# Altium footprint library diod_triod.PcbLib: 51 footprints (part 1 of 4)
Each footprint in its own frame and in the unit in brackets; x right, y up, seen from the top. Pads: shape width x height; smd on the part's side, far side on the other; paste and mask are expansions set on the pad; w line width, h text height; cw(c..) or ccw(c..) is an arc to the next point about the centre after c.
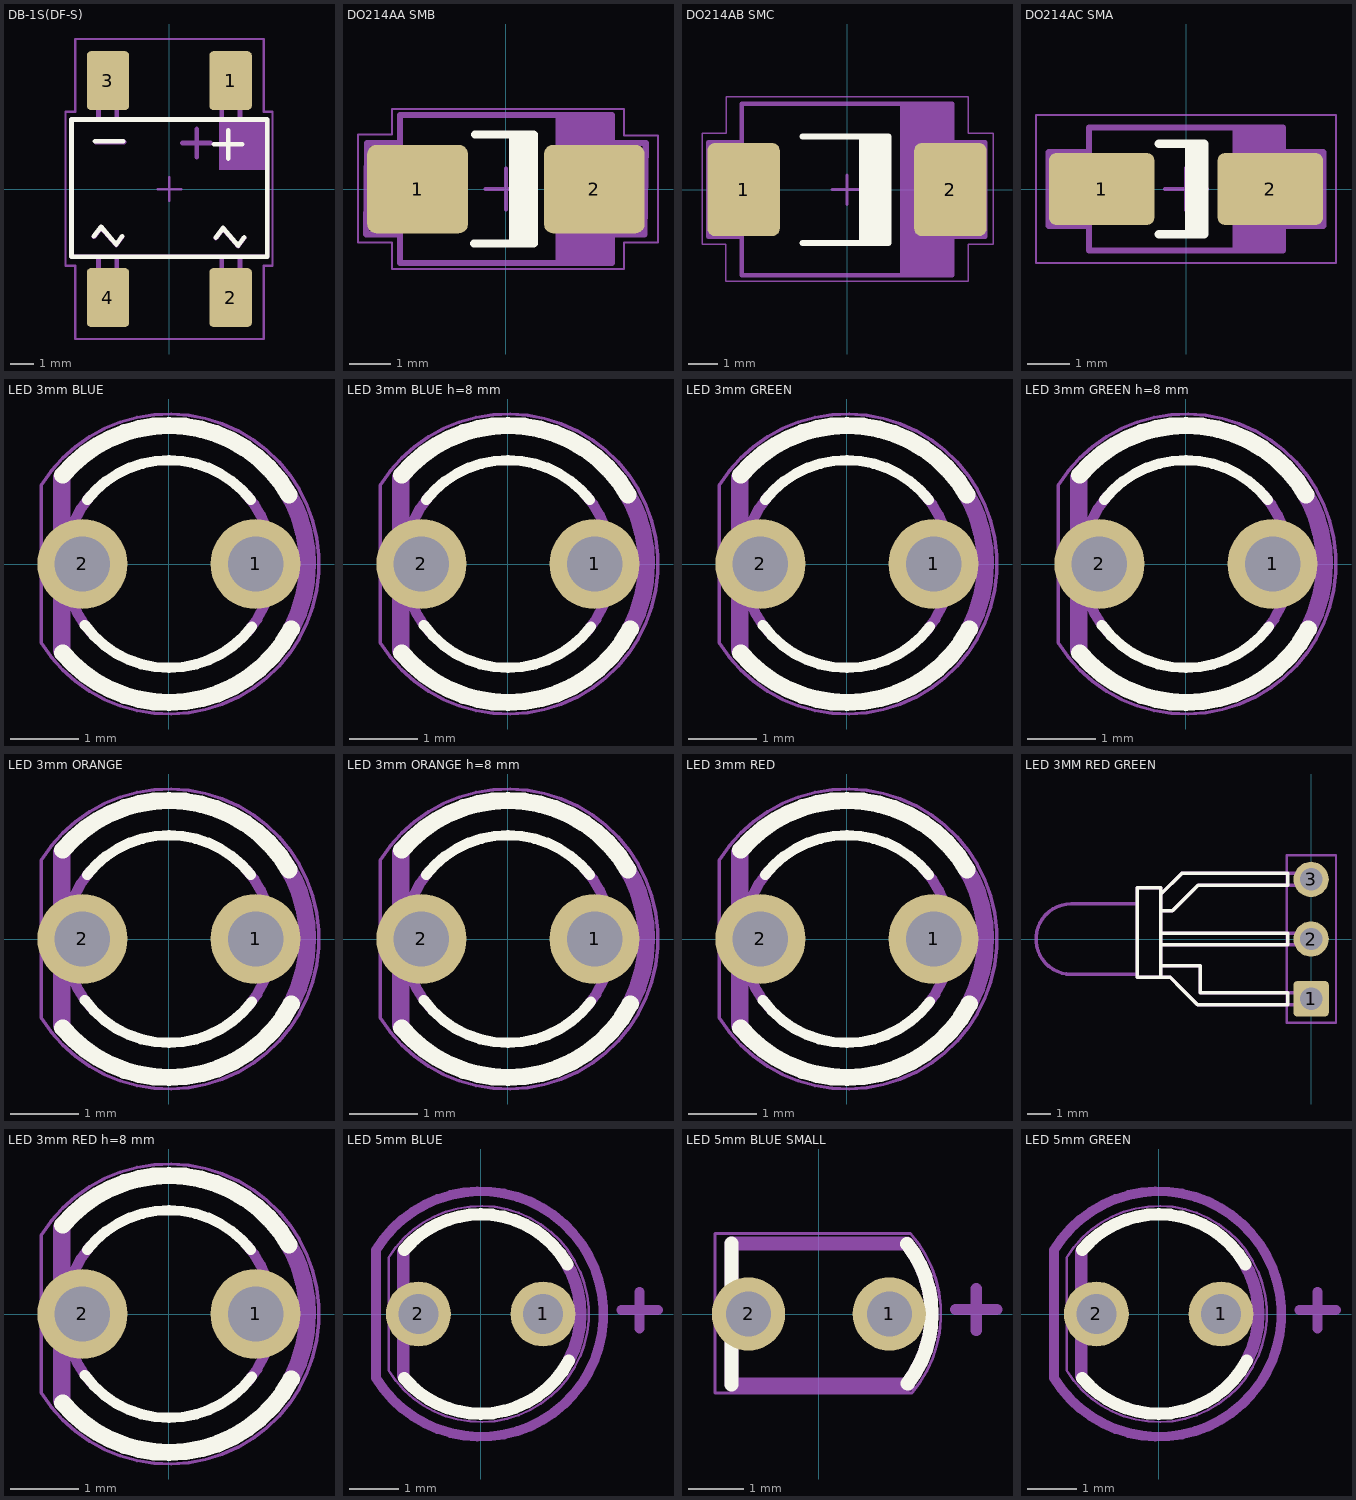
[diagram p0: the footprints below, top view; thin cyan lines are the x and y axes]

## DB-1S(DF-S) [mm]
height 1.1
pads (4):
  rrect20% 1.8x2.5 smd: 1(2.6,4.6) 2(2.6,-4.6) 3(-2.6,4.6) 4(-2.6,-4.6)
Top Overlay:
  lines w0.2: -3.2,-2 -2.9,-1.6 -2.25,-2.35 -2,-2 ; -3.15,2.025 -1.95,2.025 ; 1.9,1.9 3.1,1.9 ; 1.975,-2.05 2.275,-1.65 2.925,-2.4 3.175,-2.05 ; 2.5,1.3 2.5,2.5 ; -4.15,-2.875 4.15,-2.875 4.15,2.95 -4.15,2.95 -4.15,-2.875
Top Designator:
  text ".Designator" at -2.999,6.6 h0.6
Top Assembly:
  rectangle: 2.1,0.8 4.15,2.95
  lines w0.2: -3.2,-2.025 -2.9,-1.625 -2.25,-2.375 -2,-2.025 ; -3.125,2 -1.925,2 ; -3,-2.975 -3,-5.1 -2.225,-5.1 -2.225,-2.975 ; -3,2.975 -3,5.1 -2.225,5.1 -2.225,2.975 ; 0.564,1.952 1.764,1.952 ; 1.164,1.352 1.164,2.552 ; 1.975,-2.075 2.275,-1.675 2.925,-2.425 3.175,-2.075 ; 2.225,-2.975 2.225,-5.1 3,-5.1 3,-2.975 ; 2.225,2.975 2.225,5.1 3,5.1 3,2.975 ; -4.15,-2.875 -4.15,2.95 4.15,2.95 4.15,-2.875 -4.15,-2.875
Top Courtyard:
  lines w0.1: -0.5,0 0.5,0 ; 0,-0.5 0,0.5 ; -4.4,-3.25 -4.4,3.275 -3.996,3.275 -3.996,6.365 4.006,6.365 4.006,3.275 4.375,3.275 4.375,-3.25 4.001,-3.25 4.001,-6.359 -3.99,-6.359 -3.99,-3.25 -4.4,-3.25
3D body "DFS.stp": height 3.43, standoff 0, extent -4.255,-5.175 4.255,5.125

## DO214AA SMB [mm] "Molded Diode, 2-Leads, Body 4.31x3.62mm, IPC Medium Density"
height 2.44
pads (2):
  rrect20% 2.45x2.15 smd: 1(-2.15,0) 2(2.15,0)
Top Overlay:
  region: 0.625,-1.325 0.625,1.3 0.175,1.3 0.175,-1.325
  lines w0.2: -0.775,-1.325 0.175,-1.325 ; -0.75,1.325 0.175,1.325 ; 0.175,-1.325 0.175,1.325 ; 0.175,-1.325 0.675,-1.325 0.675,1.325 0.175,1.325
Top Designator:
  text ".Designator" at -2.849,2.275 h0.6
Top Assembly:
  rectangle: 1.2,-1.8 2.575,1.8
  lines w0.15: -2.575,-1.1 -3.4,-1.1 -3.375,1.125 -2.575,1.125 ; 2.575,-1.1 3.375,-1.1 3.4,1.125 2.575,1.125 ; -2.575,-1.8 2.575,-1.8 2.575,1.8 -2.575,1.8 -2.575,-1.8
Top Courtyard:
  lines w0.05: 2.875,1.95 2.875,1.787 2.875,1.462 2.875,1.3 3.7,1.3 3.7,-1.3 2.875,-1.3 2.875,-1.462 2.875,-1.787 2.875,-1.95 -2.775,-1.95 -2.775,-1.787 -2.775,-1.462 -2.775,-1.3 -3.6,-1.3 -3.6,1.325 -2.775,1.325 -2.775,1.488 -2.775,1.813 -2.775,1.954 2.875,1.954
  lines w0.1: -0.5,0 0.5,0 ; 0,-0.5 0,0.5
3D body "SMB.STEP": height 2.4, standoff 0, extent -2.6,-1.8 2.6,1.8

## DO214AB SMC [mm] "Molded Diode, 2-Leads, Body 6.85x5.90mm, IPC Medium Density"
height 2.62
pads (2):
  rrect20% 2.45x3.15 smd: 1(-3.5,0) 2(3.5,0)
Top Overlay:
  rectangle: 0.5,-1.8 1.4,1.8
  lines w0.2: -1.5,-1.8 0.5,-1.8 ; -1.5,1.8 0.5,1.8 ; 0.5,-1.8 1.4,-1.8 1.4,1.8 0.5,1.8 ; 0.5,-1.8 0.5,1.8
Top Designator:
  text ".Designator" at -2.999,3.4 h0.6
Top Assembly:
  rectangle: 1.8,-2.9 3.555,2.9
  lines w0.15: -3.6,-1.6 -4.7,-1.6 -4.7,1.6 -3.6,1.6 ; 3.6,-1.6 4.675,-1.6 4.675,1.6 3.6,1.6 ; -3.555,-2.9 3.555,-2.9 3.555,2.9 -3.555,2.9 -3.555,-2.9
Top Courtyard:
  lines w0.05: -4.9,-1.85 -4.9,1.9 ; -4.096,-3.1 4.1,-3.1 ; -4.083,3.14 4.099,3.14 ; 4.95,-1.85 4.95,1.9
  lines w0.051: -4.9,-1.85 -4.102,-1.85 -4.096,-3.1 ; -4.9,1.9 -4.088,1.9 -4.083,3.14 ; 4.1,-3.1 4.105,-1.85 4.95,-1.85 ; 4.099,3.14 4.105,1.9 4.95,1.9
  lines w0.1: -0.5,0 0.5,0 ; 0,-0.5 0,0.5
3D body "SMC.STEP": height 2.6, standoff 0, extent -3.97,-2.952 3.97,2.952

## DO214AC SMA [mm] "Molded Diode, 2-Leads, Body 4.30x2.60mm, IPC Medium Density"
height 2.4
pads (2):
  rrect20% 2.5x1.7 smd: 1(-2,0) 2(2,0)
Top Overlay:
  region: 0.437,-1.075 0.437,1.075 0.062,1.075 0.062,-1.075
  lines w0.2: -0.65,-1.075 0.075,-1.075 ; -0.65,1.075 0.075,1.075 ; 0.075,-1.075 0.437,-1.075 0.437,1.075 0.075,1.075 ; 0.075,-1.075 0.075,1.075
Top Designator:
  text ".Designator" at -2.999,2.3 h0.6
Top Assembly:
  rectangle: 1.1,-1.46 2.3,1.5
  lines w0.15: -2.3,-0.875 -3.25,-0.875 -3.25,0.875 -2.3,0.875 ; 2.3,-0.875 3.25,-0.875 3.25,0.875 2.3,0.875 ; -2.3,-1.46 -2.3,1.46 2.3,1.46 2.3,-1.46 -2.3,-1.46
Top Courtyard:
  lines w0.05: -3.556,-1.75 3.556,-1.75 3.556,1.75 -3.556,1.75 -3.556,-1.75
  lines w0.1: -0.5,0 0.5,0 ; 0,-0.5 0,0.5
3D body "SMA.STEP": height 2.4, standoff 0, extent -2.6,-1.375 2.6,1.375

## LED 3mm BLUE [mil]
height 421.26
pads (2):
  round 52 hole 32: 1(50,0) 2(-50,0)
Top Overlay:
  lines w6: -48.54,-35.27 ccw(c0,0) 0,-60 ccw(c0,0) 47.92,-36.11 ; -47.28,36.94 cw(c0,0) 0,60 cw(c0,0) 47.28,36.94
  lines w10: -61.28,-51.42 ccw(c0,0) 0,-80 ccw(c0,0) 70.63,-37.56 ; -61.29,51.42 cw(c0,0) 0,80 cw(c0,0) 69.28,40
Top Assembly:
  lines w6: -45.96,38.57 ccw(c0,0) -60,0 ccw(c0,0) -45.28,-39.36 ; 44.59,40.15 cw(c0,0) 60,0 cw(c0,0) 45.96,-38.57
  lines w10: -62,-50 -62,50 ; 67.84,42.4 cw(c0,0) 80,0 cw(c0,0) 70.64,-37.56
Top Courtyard:
  lines w1.97: -73.83,-45.26 ccw(c0.02,0) -73.83,45.26 ; -73.82,-45.28 -73.82,45.28
3D body "LED 3mm BLEU.STEP": height 688.98, standoff -511.81, extent -63,-62.99 63,62.99

## LED 3mm BLUE h=8 mm [mil]
height 421.26
pads (2):
  round 52 hole 32: 1(50,0) 2(-50,0)
Top Overlay:
  lines w6: -48.54,-35.27 ccw(c0,0) 0,-60 ccw(c0,0) 47.92,-36.11 ; -47.28,36.94 cw(c0,0) 0,60 cw(c0,0) 47.28,36.94
  lines w10: -61.28,-51.42 ccw(c0,0) 0,-80 ccw(c0,0) 70.63,-37.56 ; -61.29,51.42 cw(c0,0) 0,80 cw(c0,0) 69.28,40
Top Assembly:
  lines w6: -45.96,38.57 ccw(c0,0) -60,0 ccw(c0,0) -45.28,-39.36 ; 44.59,40.15 cw(c0,0) 60,0 cw(c0,0) 45.96,-38.57
  lines w10: -62,-50 -62,50 ; 67.84,42.4 cw(c0,0) 80,0 cw(c0,0) 70.64,-37.56
Top Courtyard:
  lines w1.97: -73.83,-45.26 ccw(c0.02,0) -73.83,45.26 ; -73.82,-45.28 -73.82,45.28
3D body "LED 3mm BLEU.STEP": height 433.07, standoff -767.72, extent -63,-62.99 63,62.99

## LED 3mm GREEN [mil]
height 421.26
pads (2):
  round 52 hole 32: 1(50,0) 2(-50,0)
Top Overlay:
  lines w6: -48.54,-35.27 ccw(c0,0) 0,-60 ccw(c0,0) 47.92,-36.11 ; -47.28,36.94 cw(c0,0) 0,60 cw(c0,0) 47.28,36.94
  lines w10: -61.28,-51.42 ccw(c0,0) 0,-80 ccw(c0,0) 70.63,-37.56 ; -61.29,51.42 cw(c0,0) 0,80 cw(c0,0) 69.28,40
Top Assembly:
  lines w6: -45.96,38.57 ccw(c0,0) -60,0 ccw(c0,0) -45.28,-39.36 ; 44.59,40.15 cw(c0,0) 60,0 cw(c0,0) 45.96,-38.57
  lines w10: -62,-50 -62,50 ; 67.84,42.4 cw(c0,0) 80,0 cw(c0,0) 70.64,-37.56
Top Courtyard:
  lines w1.97: -73.83,-45.26 ccw(c0.02,0) -73.83,45.26 ; -73.82,-45.28 -73.82,45.28
3D body "LED 3mm GREEN.STEP": height 688.98, standoff -511.81, extent -63,-62.99 63,62.99

## LED 3mm GREEN h=8 mm [mil]
height 421.26
pads (2):
  round 52 hole 32: 1(50,0) 2(-50,0)
Top Overlay:
  lines w6: -48.54,-35.27 ccw(c0,0) 0,-60 ccw(c0,0) 47.92,-36.11 ; -47.28,36.94 cw(c0,0) 0,60 cw(c0,0) 47.28,36.94
  lines w10: -61.28,-51.42 ccw(c0,0) 0,-80 ccw(c0,0) 70.63,-37.56 ; -61.29,51.42 cw(c0,0) 0,80 cw(c0,0) 69.28,40
Top Assembly:
  lines w6: -45.96,38.57 ccw(c0,0) -60,0 ccw(c0,0) -45.28,-39.36 ; 44.59,40.15 cw(c0,0) 60,0 cw(c0,0) 45.96,-38.57
  lines w10: -62,-50 -62,50 ; 67.84,42.4 cw(c0,0) 80,0 cw(c0,0) 70.64,-37.56
Top Courtyard:
  lines w1.97: -73.83,-45.26 ccw(c0.02,0) -73.83,45.26 ; -73.82,-45.28 -73.82,45.28
3D body "LED 3mm GREEN.STEP": height 433.07, standoff -767.72, extent -63,-62.99 63,62.99

## LED 3mm ORANGE [mil]
height 421.26
pads (2):
  round 52 hole 32: 1(50,0) 2(-50,0)
Top Overlay:
  lines w6: -48.54,-35.27 ccw(c0,0) 0,-60 ccw(c0,0) 47.92,-36.11 ; -47.28,36.94 cw(c0,0) 0,60 cw(c0,0) 47.28,36.94
  lines w10: -61.28,-51.42 ccw(c0,0) 0,-80 ccw(c0,0) 70.63,-37.56 ; -61.29,51.42 cw(c0,0) 0,80 cw(c0,0) 69.28,40
Top Assembly:
  lines w6: -45.96,38.57 ccw(c0,0) -60,0 ccw(c0,0) -45.28,-39.36 ; 44.59,40.15 cw(c0,0) 60,0 cw(c0,0) 45.96,-38.57
  lines w10: -62,-50 -62,50 ; 67.84,42.4 cw(c0,0) 80,0 cw(c0,0) 70.64,-37.56
Top Courtyard:
  lines w1.97: -73.83,-45.26 ccw(c0.02,0) -73.83,45.26 ; -73.82,-45.28 -73.82,45.28
3D body "LED 3mm ORANGE.STEP": height 688.98, standoff -511.81, extent -63,-62.99 63,62.99

## LED 3mm ORANGE h=8 mm [mil]
height 421.26
pads (2):
  round 52 hole 32: 1(50,0) 2(-50,0)
Top Overlay:
  lines w6: -48.54,-35.27 ccw(c0,0) 0,-60 ccw(c0,0) 47.92,-36.11 ; -47.28,36.94 cw(c0,0) 0,60 cw(c0,0) 47.28,36.94
  lines w10: -61.28,-51.42 ccw(c0,0) 0,-80 ccw(c0,0) 70.63,-37.56 ; -61.29,51.42 cw(c0,0) 0,80 cw(c0,0) 69.28,40
Top Assembly:
  lines w6: -45.96,38.57 ccw(c0,0) -60,0 ccw(c0,0) -45.28,-39.36 ; 44.59,40.15 cw(c0,0) 60,0 cw(c0,0) 45.96,-38.57
  lines w10: -62,-50 -62,50 ; 67.84,42.4 cw(c0,0) 80,0 cw(c0,0) 70.64,-37.56
Top Courtyard:
  lines w1.97: -73.83,-45.26 ccw(c0.02,0) -73.83,45.26 ; -73.82,-45.28 -73.82,45.28
3D body "LED 3mm ORANGE.STEP": height 433.07, standoff -767.72, extent -63,-62.99 63,62.99

## LED 3mm RED [mil]
height 421.26
pads (2):
  round 52 hole 32: 1(50,0) 2(-50,0)
Top Overlay:
  lines w6: -48.54,-35.27 ccw(c0,0) 0,-60 ccw(c0,0) 47.92,-36.11 ; -47.28,36.94 cw(c0,0) 0,60 cw(c0,0) 47.28,36.94
  lines w10: -61.28,-51.42 ccw(c0,0) 0,-80 ccw(c0,0) 70.63,-37.56 ; -61.29,51.42 cw(c0,0) 0,80 cw(c0,0) 69.28,40
Top Assembly:
  lines w6: -45.96,38.57 ccw(c0,0) -60,0 ccw(c0,0) -45.28,-39.36 ; 44.59,40.15 cw(c0,0) 60,0 cw(c0,0) 45.96,-38.57
  lines w10: -62,-50 -62,50 ; 67.84,42.4 cw(c0,0) 80,0 cw(c0,0) 70.64,-37.56
Top Courtyard:
  lines w1.97: -73.83,-45.26 ccw(c0.02,0) -73.83,45.26 ; -73.82,-45.28 -73.82,45.28
3D body "LED 3mm RED.STEP": height 688.98, standoff -511.81, extent -63,-62.99 63,62.99

## LED 3MM RED GREEN [mm] "3mm Red / Green Common Cathode LED"
pads (3):
  rrect20% 1.5x1.5 hole 0.95: 1(0,-2.54)
  round 1.5 hole 0.95: 2(0,0) 3(0,2.54)
Top Overlay:
  lines w0.15: -6.424,-1.629 -5.991,-1.629 -5.498,-2.122 -5.053,-2.567 -4.83,-2.79 -1,-2.79 -1,-2.54 -1,-2.29 -4.708,-2.29 -4.708,-1.126 -6.4,-1.126 ; -6.4,-0.25 -1,-0.25 -1,0 -1,0.25 -6.4,0.25 ; -6.4,1.204 -5.896,1.204 -5.08,2.02 ; -6.399,1.9 -5.509,2.79 -1,2.79 -1,2.54 -1,2.29 -4.81,2.29 ; -4.788,2.29 -4.81,2.29 ; -5.08,2.02 -5.08,2.02 ; -5.08,2.02 -5.365,1.735 -4.81,2.29 ; -7.399,-1.619 -6.399,-1.619 -6.399,2.181 -7.399,2.181 -7.399,-1.619
Top Designator:
  text ".Designator" at -3.399,4 h0.6
Top Assembly:
  lines w0.15: -7.4,-1.5 -10.2,-1.5 cw(c-10.2,0) -10.2,1.5 -7.4,1.5 ; -7.398,-1.219 -7.398,1.781 ; -6.424,-1.629 -5.991,-1.629 -5.72,-1.9 ; -6.4,-1.204 -6.328,-1.131 -4.708,-1.131 -4.708,-2.29 0,-2.29 0,-2.54 0,-2.79 -4.83,-2.79 -5.08,-2.54 -5.72,-1.9 ; -6.4,-0.25 0,-0.25 0,0 0,0.25 -6.4,0.25 ; -6.4,1.204 -5.896,1.204 -5,2.1 ; -6.399,1.9 -5.509,2.79 0,2.79 0,2.54 0,2.29 -4.81,2.29 ; -6.398,-1.619 -6.397,-1.619 ; -5.72,-1.9 -5.72,-1.9 ; -7.399,-1.619 -6.399,-1.619 -6.399,2.181 -7.399,2.181 -7.399,-1.619
Top Courtyard:
  lines w0.1: -0.5,0 0.5,0 ; 0,-0.5 0,0.5 ; -1.04,-3.555 -1.04,3.56 1.057,3.56 1.057,-3.555 -1.04,-3.555
3D body "WP115WGYW.stp": height 5.5, standoff 0.25, extent -11.76,-2.778 0.24,2.802

## LED 3mm RED h=8 mm [mil]
height 421.26
pads (2):
  round 52 hole 32: 1(50,0) 2(-50,0)
Top Overlay:
  lines w6: -48.54,-35.27 ccw(c0,0) 0,-60 ccw(c0,0) 47.92,-36.11 ; -47.28,36.94 cw(c0,0) 0,60 cw(c0,0) 47.28,36.94
  lines w10: -61.28,-51.42 ccw(c0,0) 0,-80 ccw(c0,0) 70.63,-37.56 ; -61.29,51.42 cw(c0,0) 0,80 cw(c0,0) 69.28,40
Top Assembly:
  lines w6: -45.96,38.57 ccw(c0,0) -60,0 ccw(c0,0) -45.28,-39.36 ; 44.59,40.15 cw(c0,0) 60,0 cw(c0,0) 45.96,-38.57
  lines w10: -62,-50 -62,50 ; 67.84,42.4 cw(c0,0) 80,0 cw(c0,0) 70.64,-37.56
Top Courtyard:
  lines w1.97: -73.83,-45.26 ccw(c0.02,0) -73.83,45.26 ; -73.82,-45.28 -73.82,45.28
3D body "LED 3mm RED.STEP": height 433.07, standoff -767.72, extent -50.21,-87.6 75.79,38.38

## LED 5mm BLUE [mil]
height 421.26
pads (2):
  round 52 hole 32: 1(50,0) 2(-50,0)
Top Overlay:
  lines w10: -61.28,-51.42 ccw(c0,0) 0,-80 ccw(c0,0) 70.63,-37.56 ; -61.29,51.42 cw(c0,0) 0,80 cw(c0,0) 69.28,40
Bottom Dimensions:
  lines w7.87: 112.65,3.14 142.18,3.14 ; 127.42,-11.62 127.42,17.91 ; -83.92,-51.43 ccw(c0,0) -83.92,51.43 -83.92,-51.43
  text ".Designator" at -72.83,115.16 h39.37
Top Assembly:
  lines w10: -62,-50 -62,50 ; 67.84,42.4 cw(c0,0) 80,0 cw(c0,0) 70.64,-37.56
Top Courtyard:
  lines w1.97: -73.83,-45.26 ccw(c0.02,0) -73.83,45.26 ; -73.82,-45.28 -73.82,45.28
3D body "LED_Round_Blue_D5.0mm.step": height 417.32, standoff -157.48, extent -98.42,-116.13 116.15,116.15

## LED 5mm BLUE SMALL [mil]
height 421.26
pads (2):
  round 52 hole 32: 1(50,0) 2(-50,0)
Top Overlay:
  lines w10: -62,-50 -62,50 ; 62.66,49.73 cw(c0,0) 80,0 cw(c0,0) 63.04,-49.25
Bottom Dimensions:
  lines w7.87: 96.9,3.14 126.43,3.14 ; 111.67,-11.62 111.67,17.91
  text ".Designator" at -71.85,70.87 h39.37
Top Assembly:
  lines w10: 62.66,49.73 cw(c0,0) 80,0 cw(c0,0) 63.04,-49.25 ; 62.66,50 -62,50 -62,-50 63.04,-50
Top Courtyard:
  lines w1.97: 64.96,57.09 -73.82,57.09 -73.82,-56.1 65.94,-56.1 ; 65.01,57.25 cw(c0.02,0) 66.31,-55.74
3D body "LED_Round_Blue_D5.0mm.step": height 850.39, standoff 275.59, extent -98.42,-116.14 116.15,116.14

## LED 5mm GREEN [mil]
height 421.26
pads (2):
  round 52 hole 32: 1(50,0) 2(-50,0)
Top Overlay:
  lines w10: -61.28,-51.42 ccw(c0,0) 0,-80 ccw(c0,0) 70.63,-37.56 ; -61.29,51.42 cw(c0,0) 0,80 cw(c0,0) 69.28,40
Bottom Dimensions:
  lines w7.87: 112.65,3.14 142.18,3.14 ; 127.42,-11.62 127.42,17.91 ; -83.92,-51.43 ccw(c0,0) -83.92,51.43 -83.92,-51.43
  text ".Designator" at -72.83,115.16 h39.37
Top Assembly:
  lines w10: -62,-50 -62,50 ; 67.84,42.4 cw(c0,0) 80,0 cw(c0,0) 70.64,-37.56
Top Courtyard:
  lines w1.97: -73.83,-45.26 ccw(c0.02,0) -73.83,45.26 ; -73.82,-45.28 -73.82,45.28
3D body "LED_Round_Green3_D5.0mm.step": height 417.32, standoff -157.48, extent -98.42,-116.13 116.15,116.15